# Altium footprint library Transistor.pcblib: 7 footprints
Each footprint in its own frame and in the unit in brackets; x right, y up, seen from the top. Pads: shape width x height; smd on the part's side, far side on the other; paste and mask are expansions set on the pad; w line width, h text height; cw(c..) or ccw(c..) is an arc to the next point about the centre after c.
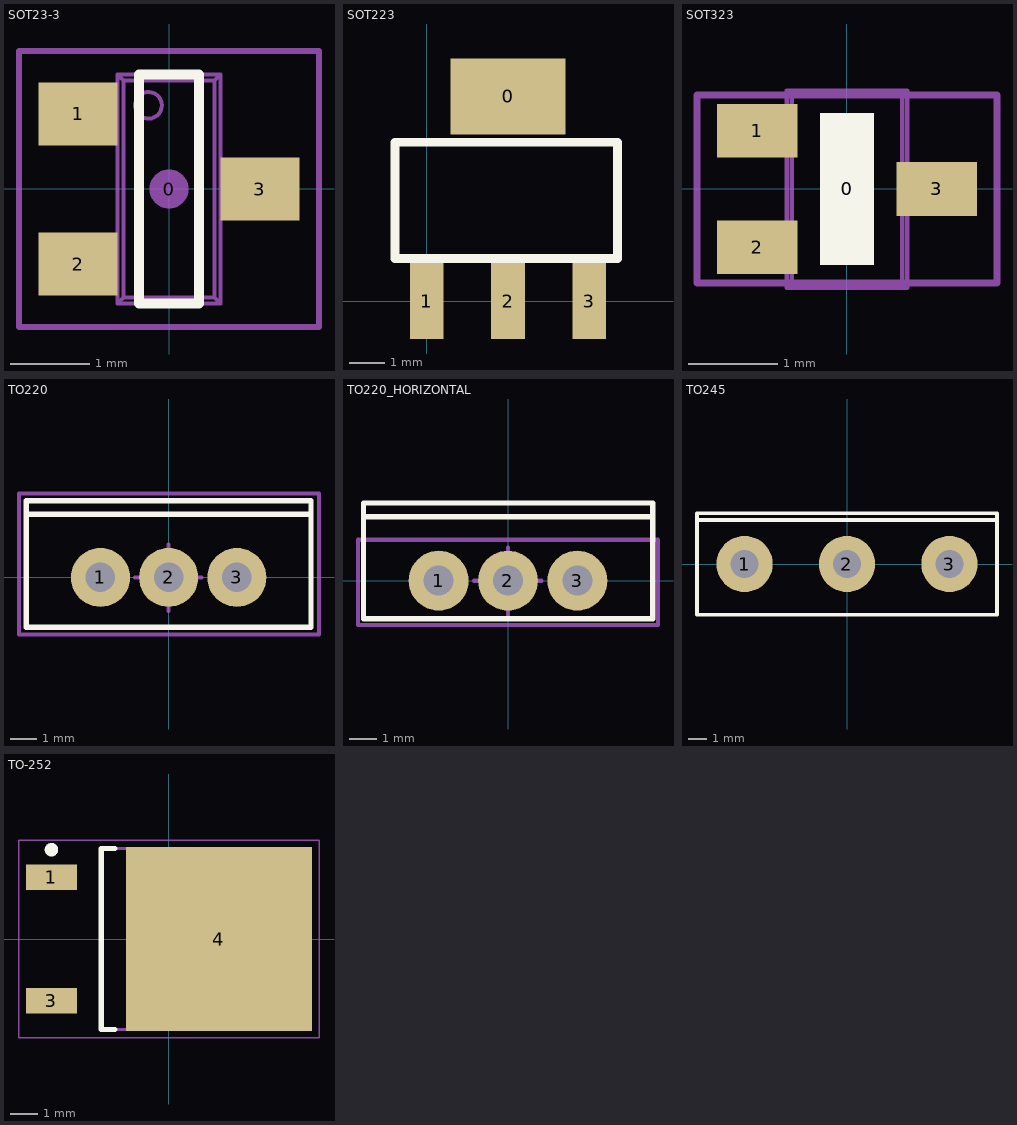
[diagram p0: the footprints below, top view; thin cyan lines are the x and y axes]

## SOT23-3 [mm] "SOT23, 3 pin"
height 1
pads (4):
  round 0.5 on Mech15: 0(0,0)
  rect 1x0.8 smd: 1(-1.15,0.95) 2(-1.15,-0.95) 3(1.15,0)
Top Overlay:
  lines w0.127: -0.381,-1.45 0.381,-1.45 0.381,1.45 -0.381,1.45 -0.381,-1.45
Mechanical 13:
  circle w0.05: c-0.26,1.06 r0.169
  lines w0.05: -1.19,-1.19 -1.19,-0.71 ; -1.19,0.71 -1.19,1.19 ; -1.099,-1.19 -1.099,-0.71 ; -1.099,0.71 -1.099,1.19 ; -1.074,-1.19 -1.074,-0.71 ; -1.074,0.71 -1.074,1.19 ; -0.825,-1.19 -0.825,-0.71 ; -0.825,0.71 -0.825,1.19 ; -0.65,-1.19 -1.4,-1.19 -1.4,-0.71 -0.65,-0.71 ; -0.65,0.71 -1.4,0.71 -1.4,1.19 -0.65,1.19 ; 0.65,-0.24 1.4,-0.24 1.4,0.24 0.65,0.24 ; 0.825,-0.24 0.825,0.24 ; 1.074,-0.24 1.074,0.24 ; 1.099,-0.24 1.099,0.24 ; 1.19,-0.24 1.19,0.24 ; -0.65,-1.45 -0.576,-1.376 ; -0.65,-1.45 -0.65,1.45 ; -0.65,-1.45 0.65,-1.45 ; -0.65,1.45 0.65,1.45 ; -0.65,1.45 -0.576,1.376 ; -0.576,-1.376 -0.576,1.376 ; -0.576,-1.376 0.576,-1.376 ; -0.576,1.376 0.576,1.376 ; 0.576,-1.376 0.576,1.376 ; 0.576,-1.376 0.65,-1.45 ; 0.576,1.376 0.65,1.45 ; 0.65,-1.45 0.65,1.45
Mechanical 15:
  lines w0.076: -1.9,-1.75 1.9,-1.75 1.9,1.75 -1.9,1.75 -1.9,-1.75
3D body "SOT23-3.STEP": height 1.29, standoff -0.01, extent -1.4,-1.45 1.4,1.45

## SOT223 [mm]
pads (4):
  rect 3.25x2.15 smd: 0(2.3,5.8)
  rect 0.95x2.15 smd: 1(0,0) 2(2.3,0) 3(4.6,0)
Top Overlay:
  lines w0.254: -0.9,1.2 -0.9,4.5 5.4,4.5 5.4,1.2 -0.9,1.2
3D body "SOT_223.STEP": height 1.7, standoff 0.02, extent -0.95,-0.38 5.55,6.58

## SOT323 [mm] "SOT23, 3 pin"
height 1
pads (4):
  round 0.5 on Mech15: 0(0,0)
  rect 0.9x0.6 smd: 1(-1,0.65) 2(-1,-0.65) 3(1,0)
Top Overlay:
  rectangle: -0.3,-0.85 0.3,0.85
Mechanical 13:
  lines w0.05: -1.028,-0.8 -1.028,-0.5 ; -1.028,0.5 -1.028,0.8 ; -0.937,-0.8 -0.937,-0.5 ; -0.937,0.5 -0.937,0.8 ; -0.925,-0.8 -0.925,-0.5 ; -0.925,0.5 -0.925,0.8 ; 0.925,-0.15 0.925,0.15 ; 0.937,-0.15 0.937,0.15 ; 1.028,-0.15 1.028,0.15 ; -0.675,-1.1 -0.619,-1.044 ; -0.675,-1.1 -0.675,1.1 ; -0.675,-1.1 0.675,-1.1 ; -0.675,1.1 -0.619,1.043 ; -0.675,1.1 0.675,1.1 ; -0.619,-1.044 -0.619,1.043 ; -0.619,-1.044 0.619,-1.044 ; -0.619,1.043 0.619,1.043 ; 0.619,-1.044 0.619,1.043 ; 0.619,-1.044 0.675,-1.1 ; 0.619,1.043 0.675,1.1 ; 0.675,-1.1 0.675,1.1 ; -1.2,-0.8 -0.654,-0.8 -0.654,-0.5 -1.2,-0.5 -1.2,-0.8 ; -1.2,0.5 -0.654,0.5 -0.654,0.8 -1.2,0.8 -1.2,0.5 ; 0.654,-0.15 0.654,0.15 1.2,0.15 1.2,-0.15 0.654,-0.15
Mechanical 15:
  lines w0.076: -1.675,-1.05 1.675,-1.05 1.675,1.05 -1.675,1.05 -1.675,-1.05
3D body "SOT323.STEP": height 1.1, standoff 0, extent -1.2,-1.1 1.2,1.1

## TO220 [mm] "The TO-220 package"
height 25
pads (3):
  round 2.2 hole 1.1: 1(-2.54,0) 2(0,0) 3(2.54,0)
Top Overlay:
  lines w0.2: -5.299,2.35 5.301,2.35 ; -5.299,-1.85 -5.299,2.85 5.301,2.85 5.301,-1.85 -5.299,-1.85
Mechanical 15:
  lines w0.15: -1.25,0 1.225,0 ; 0,-1.25 0,1.225 ; -5.575,-2.125 5.6,-2.125 5.6,3.125 -5.575,3.125 -5.575,-2.125
3D body "CircuitWorks-TO-220HS.SLDPRT": height 19.54, standoff -2.81, extent -5.068,-1.447 5.092,3.125

## TO220_HORIZONTAL [mm] "The TO-220 package HORIZONTAL"
height 10
pads (3):
  round 2.2 hole 1.1: 1(-2.54,0) 2(0,0) 3(2.54,0)
Top Overlay:
  lines w0.2: -5.299,2.35 5.301,2.35 ; -5.299,-1.4 -5.299,2.85 5.301,2.85 5.301,-1.4 -5.299,-1.4
Mechanical 15:
  lines w0.15: -1.25,0 1.225,0 ; 0,-1.25 0,1.225 ; -5.5,-1.625 5.5,-1.625 5.5,1.5 -5.5,1.5 -5.5,-1.625
3D body "User Library-TO220-A-H PCB.SLDPRT": height 2.55, standoff -5.58, extent -4.95,-0.313 4.95,19.9

## TO245 [mm] "The TO-247 package"
height 25
pads (3):
  round 3 hole 1.5: 1(-5.46,0) 2(0,0) 3(5.46,0)
Top Overlay:
  lines w0.2: -8,2.35 8,2.35 ; -8,-2.7 -8,2.7 8,2.7 8,-2.7 -8,-2.7
Mechanical 15:
  lines w0.15: -1.25,0 1.225,0 ; 0,-1.25 0,1.225 ; -8,-2.7 8,-2.7 8,2.7 -8,2.7 -8,-2.7
3D body "User Library-to-247ad.SLDPRT": height 27, standoff -14.07, extent -7.95,-2.7 8,2.33

## TO-252 [mm] "D-PAK, 3-Pads, Body 6,20x6,72mm (max), IPC Medium Density"
height 2.38
pads (3):
  rect 1.9x0.95 smd: 1(-4.35,2.28) 3(-4.35,-2.28)
  rect 6.9x6.8 smd: 4(1.85,0)
Top Overlay:
  circle w0.25: c-4.35,3.305 r0.125
  lines w0.2: -2,-3.35 -2.5,-3.35 -2.5,3.35 -2,3.35
Mechanical 13:
  lines w0.1: -2.5,-3.35 -2.5,3.35 3.7,3.35 3.7,-3.35 -2.5,-3.35
Mechanical 15:
  lines w0.05: -5.55,-3.65 -5.55,3.65 5.55,3.65 5.55,-3.65 -5.55,-3.65
  lines w0.1: -0.5,0 0.5,0 ; 0,-0.5 0,0.5
3D body "CircuitWorks-TO-252.step": height 2.3, standoff 0, extent -4.673,-3.29 5.027,3.29